# EAGLE library part UJ2-BH-1-TH (library UJ2-BH-1-TH)
USB Connectors USB 2.0 type B jack 4 pin Horizontal TH Source: Datasheet <http://www.cui.com/product/resource/uj2-bh-th.pdf>
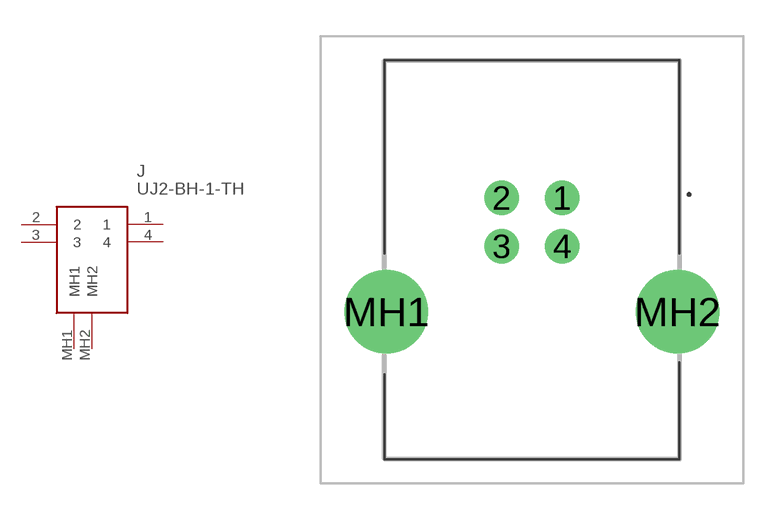
[diagram p0: symbol with the pads of UJ2BH1TH; footprint UJ2BH1TH]

Designator prefix J

## UJ2-BH-1-TH (Arrow_Part_Number: UJ2-BH-1-TH; Arrow_Price-Stock: https://www.arrow.com/en/products/uj2-bh-1-th/cui-devices; Description: USB Connectors USB 2.0 type B jack 4 pin Horizontal TH; Height: 10mm; Manufacturer_Name: CUI Inc.; Manufacturer_Part_Number: UJ2-BH-1-TH; Mouser_Part_Number: 490-UJ2-BH-1-TH; Mouser_Price-Stock: https://www.mouser.co.uk/ProductDetail/CUI-Devices/UJ2-BH-1-TH/?qs=5mqXD9RfOg2PqeDe959d6w%3D%3D)  [UJ2BH1TH]
1  1
2  2
3  3
4  4
MH1  MH1
MH2  MH2

## Footprint UJ2BH1TH (pad centres in mm)
UJ2-BH-1-TH
drill 0.92 pad 1.431: 1 1.25,10.81; 2 -1.25,10.81; 3 -1.25,8.81; 4 1.25,8.81
drill 2.3 pad 3.45: MH1 -6.02,6.1; MH2 6.02,6.1